# EAGLE library part ACS711 (library PowerIC)
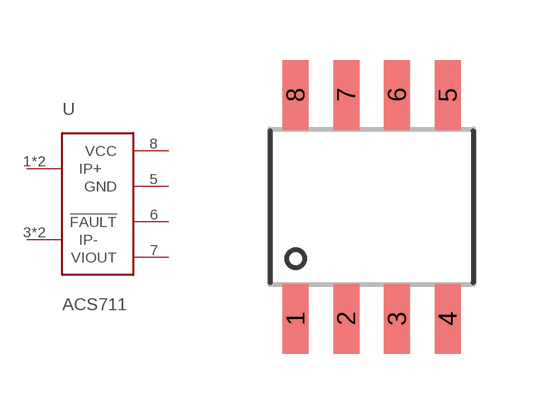
[diagram p0: symbol with the pads of 8SOIC; footprint 8SOIC]

Designator prefix U

## ACS711  [8SOIC]
1  IP+
2  IP+
3  IP-
4  IP-
5  GND
6  !FAULT
7  VIOUT
8  VCC

## Footprint 8SOIC (pad centres in mm)
smd 0.65 x 1.75: 1 -1.905,-2.8; 2 -0.635,-2.8; 3 0.635,-2.8; 4 1.905,-2.8; 5 1.905,2.8; 6 0.635,2.8; 7 -0.635,2.8; 8 -1.905,2.8